# Altium footprint library Panasonic_Footprints.PcbLib: 2 footprints
Each footprint in its own frame and in the unit in brackets; x right, y up, seen from the top. Pads: shape width x height; smd on the part's side, far side on the other; paste and mask are expansions set on the pad; w line width, h text height; cw(c..) or ccw(c..) is an arc to the next point about the centre after c.
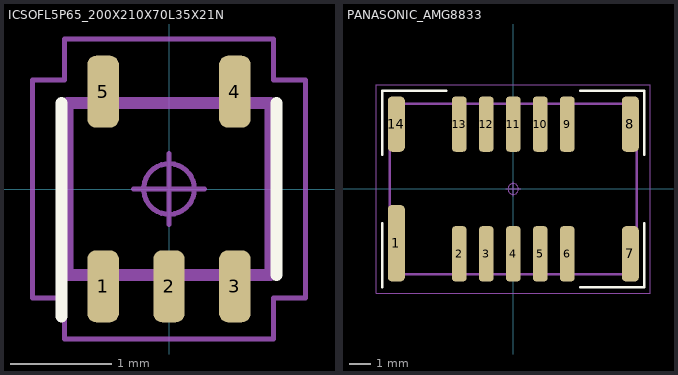
[diagram p0: the footprints below, top view; thin cyan lines are the x and y axes]

## ICSOFL5P65_200X210X70L35X21N [mm] "IPC-7351C"
height 0.7
pads (5):
  rrect55% 0.31x0.71 smd: 1(-0.65,-0.96) 2(0,-0.96) 3(0.65,-0.96) 4(0.65,0.96) 5(-0.65,0.96)
Top Overlay:
  lines w0.12: -1.06,-1.255 -1.06,0.85 ; 1.06,-0.85 1.06,0.85
Mechanical 11:
  lines w0.12: -1,-0.85 1,-0.85 1,0.85 -1,0.85 -1,-0.85
Mechanical 12:
  lines w0.025: -1,-0.85 -1,0.85 1,0.85 1,-0.85 -1,-0.85 ; -0.75,-1.05 -0.75,-0.7 -0.55,-0.7 -0.55,-1.05 -0.75,-1.05 ; -0.75,0.7 -0.55,0.7 -0.55,1.05 -0.75,1.05 -0.75,0.7 ; -0.1,-1.05 0.1,-1.05 0.1,-0.7 -0.1,-0.7 -0.1,-1.05 ; 0.55,-1.05 0.75,-1.05 0.75,-0.7 0.55,-0.7 0.55,-1.05 ; 0.55,0.7 0.75,0.7 0.75,1.05 0.55,1.05 0.55,0.7
Mechanical 15:
  circle w0.05: c0,0 r0.25
  lines w0.05: -0.35,0 0.35,0 ; 0,-0.35 0,0.35 ; -1.345,-1.075 -1.345,1.075 -1.03,1.075 -1.03,1.48 1.03,1.48 1.03,1.075 1.345,1.075 1.345,-1.075 1.03,-1.075 1.03,-1.48 -1.03,-1.48 -1.03,-1.075 -1.345,-1.075
Mechanical 16:
  text "'.Designator'" at 0,0 h1.2
3D body "ICSOFL5P65_200X210X71L35X21.STEP": height 0.71, standoff 0, extent -1,-1.05 1,1.05

## PANASONIC_AMG8833 [mm] "IPC-7351C"
height 4.7
pads (14):
  rrect50% 0.8x3.6 smd: 1(-5.5,-2.55)
  rrect50% 0.7x2.6 smd: 2(-2.54,-3.05) 3(-1.27,-3.05) 4(0,-3.05) 5(1.27,-3.05) 6(2.54,-3.05) 9(2.54,3.05) 10(1.27,3.05) 11(0,3.05) 12(-1.27,3.05) 13(-2.54,3.05)
  rrect50% 0.8x2.6 smd: 7(5.506,-3.05) 8(5.506,3.05) 14(-5.5,3.05)
Top Overlay:
  lines w0.12: -6.16,-4.61 -6.16,-1.61 ; -6.16,1.61 -6.16,4.61 -3.16,4.61 ; 3.16,-4.61 6.16,-4.61 6.16,-1.61 ; 3.16,4.61 6.16,4.61 6.16,1.61
Mechanical 11:
  lines w0.12: -5.8,-4 5.8,-4 5.8,4 -5.8,4 -5.8,-4
Mechanical 12:
  lines w0.025: -2.797,-4 cw(c-2.542,-4.631) -2.286,-4 ; -2.795,4 ccw(c-2.539,4.63) -2.284,4 -1.525,3.999 ; -2.291,-4 -2.291,-2.175 ccw(c-2.541,-2.202) -2.791,-2.176 -2.79,-4 -5.8,-4 -5.8,4 -2.79,4 -2.79,2.175 ccw(c-2.54,2.201) -2.29,2.175 -2.29,4 ; -2.285,-4 -1.52,-4 -1.52,-2.176 cw(c-1.271,-2.202) -1.021,-2.176 -1.02,-4 ; -1.527,-4 cw(c-1.272,-4.631) -1.016,-4 ; -1.524,4 ccw(c-1.268,4.63) -1.013,4 ; -1.519,4 -1.519,2.175 ccw(c-1.269,2.201) -1.019,2.175 -1.019,4 -0.26,3.999 ccw(c-0.004,4.63) 0.251,3.999 ; -1.02,-4 -0.257,-4 ; -0.256,-3.999 cw(c-0.001,-4.63) 0.255,-4 1.013,-4 1.013,-2.176 cw(c1.263,-2.202) 1.513,-2.176 1.513,-4 ; -0.255,4 -0.255,2.175 ccw(c-0.005,2.201) 0.245,2.175 0.245,3.999 1.01,3.999 ; -0.25,-3.999 -0.25,-2.175 cw(c0,-2.201) 0.25,-2.175 0.25,-4 ; 1.007,-4 cw(c1.262,-4.631) 1.518,-4 ; 1.01,4 ccw(c1.266,4.63) 1.521,4 ; 1.015,4 1.015,2.175 ccw(c1.265,2.201) 1.515,2.175 1.515,4 2.28,3.999 ; 1.525,-4 2.285,-4 2.285,-2.176 cw(c2.534,-2.202) 2.784,-2.176 ; 2.278,-4 cw(c2.533,-4.631) 2.789,-4 ; 2.28,4 ccw(c2.536,4.63) 2.791,4 ; 2.285,4 2.285,2.175 ccw(c2.535,2.201) 2.785,2.175 2.785,4 5.799,3.999 ; 2.785,-4 2.785,-2.175 ; 2.79,-4 5.8,-4 5.8,4 ; 5.254,3.95 5.254,2.125 ccw(c5.504,2.152) 5.754,2.126 5.754,3.95 5.255,3.95 ; 5.756,-3.95 5.756,-2.125 ccw(c5.506,-2.152) 5.256,-2.126 5.256,-3.95 5.756,-3.95 ; -5.75,-3.95 -5.75,-0.95 -5.25,-0.95 -5.25,-3.95 -5.75,-3.95 ; -5.745,2.125 ccw(c-5.495,2.151) -5.245,2.125 -5.245,3.95 -5.745,3.95 -5.745,2.125
Mechanical 15:
  circle w0.05: c0,0 r0.25
  lines w0.05: -0.35,0 0.35,0 ; 0,-0.35 0,0.35 ; -6.445,-4.895 6.445,-4.895 6.445,4.895 -6.445,4.895 -6.445,-4.895
Mechanical 16:
  text "'.Designator'" at 0,0 h1.2
3D body "AMG8833--3DModel-STEP-56544.STEP": height 4.3, standoff 0, extent -5.8,-4 5.8,4